# Altium footprint library 171814-0007.PcbLib: 1 footprints
Each footprint in its own frame and in the unit in brackets; x right, y up, seen from the top. Pads: shape width x height; smd on the part's side, far side on the other; paste and mask are expansions set on the pad; w line width, h text height; cw(c..) or ccw(c..) is an arc to the next point about the centre after c.
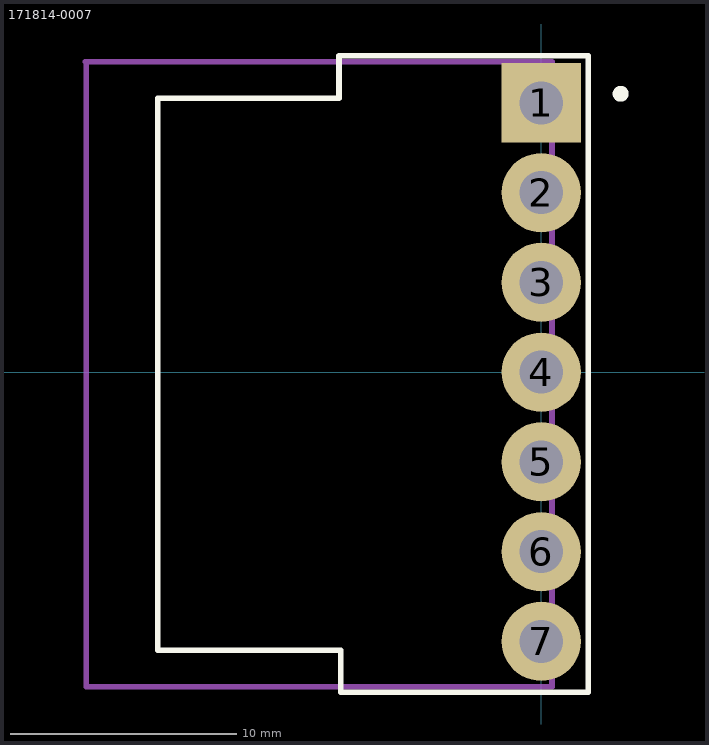
[diagram p0: the footprint, top view; thin cyan lines are the x and y axes]

## 171814-0007 [mm]
pads (7):
  rect 3.5x3.5 hole 1.9 mask+0.102: 1(0,11.88)
  round 3.5 hole 1.9 mask+0.102: 2(0,7.92) 3(0,3.96) 4(0,0) 5(0,-3.96) 6(0,-7.92) 7(0,-11.88)
Top Overlay:
  circle w0.5: c3.5,12.28 r0.1
  lines w0.25: -8.925,13.93 -8.925,12.08 -16.925,12.08 -16.925,-12.27 -8.85,-12.27 -8.85,-14.12 2.075,-14.12 2.075,13.955 ; -8.925,13.955 2,13.955
Mechanical 13:
  lines w0.25: -20.125,13.7 0.475,13.7 0.475,-13.875 -20.075,-13.875 -20.075,13.65
3D body "1718140007.stp": height 9.57, standoff -2.98, extent -20.05,-13.862 0.549,13.722